# Altium footprint library PadyDoN20.PcbLib: 1 footprints
Each footprint in its own frame and in the unit in brackets; x right, y up, seen from the top. Pads: shape width x height; smd on the part's side, far side on the other; paste and mask are expansions set on the pad; w line width, h text height; cw(c..) or ccw(c..) is an arc to the next point about the centre after c.
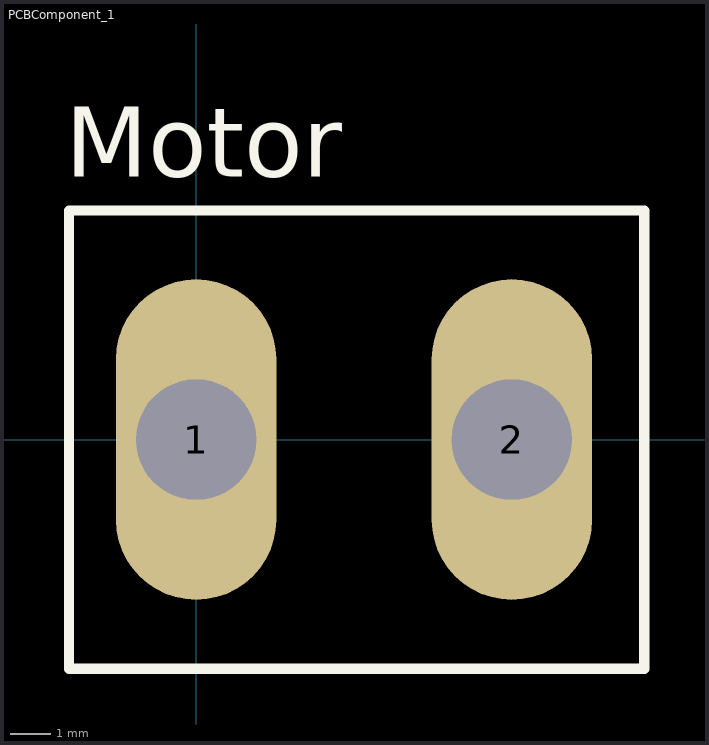
[diagram p0: the footprint, top view; thin cyan lines are the x and y axes]

## PCBComponent_1 [mm]
pads (2):
  oval 4x8 hole 3: 1(0,0) 2(7.874,0)
Top Overlay:
  lines w0.254: -3.175,-5.715 11.176,-5.715 11.176,5.715 -3.175,5.715 -3.175,-5.715
  text "Motor" at -3.264,5.986 h3